# EAGLE library part MFRC522 (library trosh_devices.eagle.v9)
Contactless reader/writer, standard performance MIFARE and NTAG frontend
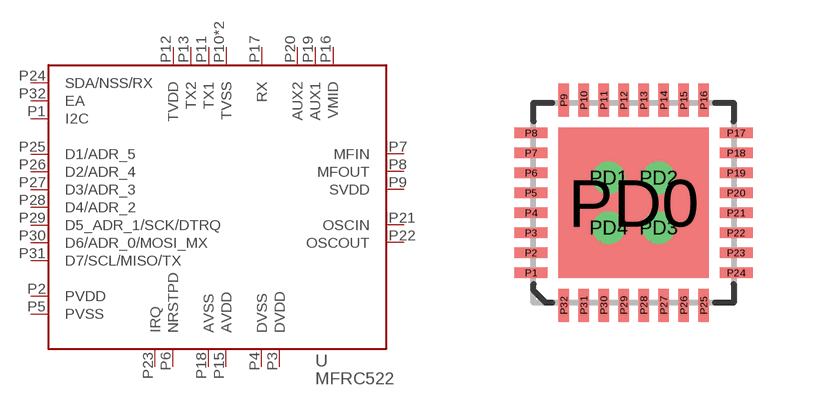
[diagram p2: symbol with the pads of HVQFN-32; footprint HVQFN-32]

Designator prefix U

## MFRC522  [HVQFN-32]
P1  I2C  in
P2  PVDD  pwr
P3  DVDD  pwr
P4  DVSS  pwr
P5  PVSS  pwr
P6  NRSTPD  in
P7  MFIN  in
P8  MFOUT  out
P9  SVDD  pwr
P10  TVSS  pwr
P11  TX1  out
P12  TVDD  pwr
P13  TX2  out
P14  TVSS  pwr
P15  AVDD  pwr
P16  VMID  pwr
P17  RX  in
P18  AVSS  pwr
P19  AUX1  out
P20  AUX2  out
P21  OSCIN  in
P22  OSCOUT  out
P23  IRQ  out
P24  SDA/NSS/RX
P25  D1/ADR_5
P26  D2/ADR_4
P27  D3/ADR_3
P28  D4/ADR_2
P29  D5_ADR_1/SCK/DTRQ
P30  D6/ADR_0/MOSI_MX
P31  D7/SCL/MISO/TX
P32  EA  in

## Footprint HVQFN-32 (pad centres in mm)
smd 0.82 x 0.27: P1 -2.565,-1.75; P2 -2.565,-1.25; P3 -2.565,-0.75; P4 -2.565,-0.25; P5 -2.565,0.25; P6 -2.565,0.75; P7 -2.565,1.25; P8 -2.565,1.75; P17 2.565,1.75; P18 2.565,1.25; P19 2.565,0.75; P20 2.565,0.25; P21 2.565,-0.25; P22 2.565,-0.75; P23 2.565,-1.25; P24 2.565,-1.75
smd 0.27 x 0.82: P9 -1.75,2.565; P10 -1.25,2.565; P11 -0.75,2.565; P12 -0.25,2.565; P13 0.25,2.565; P14 0.75,2.565; P15 1.25,2.565; P16 1.75,2.565; P25 1.75,-2.565; P26 1.25,-2.565; P27 0.75,-2.565; P28 0.25,-2.565; P29 -0.25,-2.565; P30 -0.75,-2.565; P31 -1.25,-2.565; P32 -1.75,-2.565
smd 3.75 x 3.75: PD0 0,0
drill 0.3 pad 0.6: PD1 -0.625,0.625; PD2 0.625,0.625; PD3 0.625,-0.625; PD4 -0.625,-0.625